# EAGLE library part PN532_MODULE (library mastrogippo)
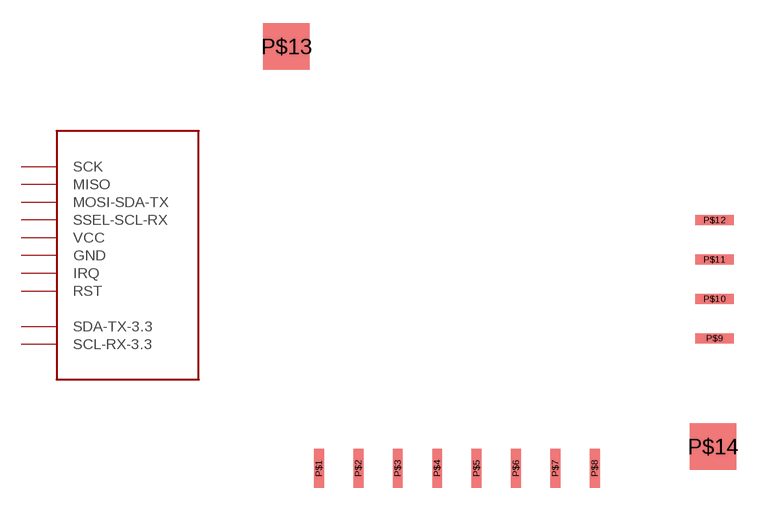
[diagram p43: symbol with the pads of PN532_MODULE; footprint PN532_MODULE]

Designator prefix -

## PN532_MODULE  [PN532_MODULE]
P$1  RST
P$2  IRQ
P$3  GND
P$4  VCC
P$5  SSEL-SCL-RX
P$6  MOSI-SDA-TX
P$7  MISO
P$8  SCK
P$9  GND
P$10  VCC
P$11  SDA-TX-3.3
P$12  SCL-RX-3.3

## Footprint PN532_MODULE (pad centres in mm)
smd 0.635 x 2.5: P$1 10.6,7.7; P$2 13.14,7.7; P$3 15.68,7.7; P$4 18.22,7.7; P$5 20.76,7.7; P$6 23.3,7.7; P$7 25.84,7.7; P$8 28.38,7.7
smd 2.5 x 0.635: P$9 36.1,16.08; P$10 36.1,18.62; P$11 36.1,21.16; P$12 36.1,23.7
smd 3 x 3: P$13 8.5,34.9; P$14 36,9.1